# Altium schematic symbol library HTSW-102-08-L-S.SchLib: 1 symbol
Pins are listed as number, name and electrical type; pins without a type are passive.

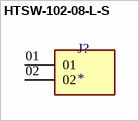
[diagram p0: symbol HTSW-102-08-L-S]

## HTSW-102-08-L-S
designator J?
Conn Unshrouded Header HDR 2 POS 2.54mm Solder ST Top Entry Thru-Hole Bag; MP: HTSW-102-08-L-S; MF: Samtec Inc.; Value: *; Availability: In Stock; Package: None; Price: None; SnapEDA_Link: https://www.snapeda.com/parts/HTSW-102-08-L-S/Samtec/view-part/?ref=snap; Purchase-URL: https://pricing.snapeda.com/search/part/HTSW-102-08-L-S/?ref=eda; Check_prices: https://www.snapeda.com/parts/HTSW-102-08-L-S/Samtec/view-part/?ref=eda
footprint SAMTEC_HTSW-102-08-L-S
pins: 01, 02